# Altium footprint library fifo.PCBLIB: 7 footprints
Each footprint in its own frame and in the unit in brackets; x right, y up, seen from the top. Pads: shape width x height; smd on the part's side, far side on the other; paste and mask are expansions set on the pad; w line width, h text height; cw(c..) or ccw(c..) is an arc to the next point about the centre after c.
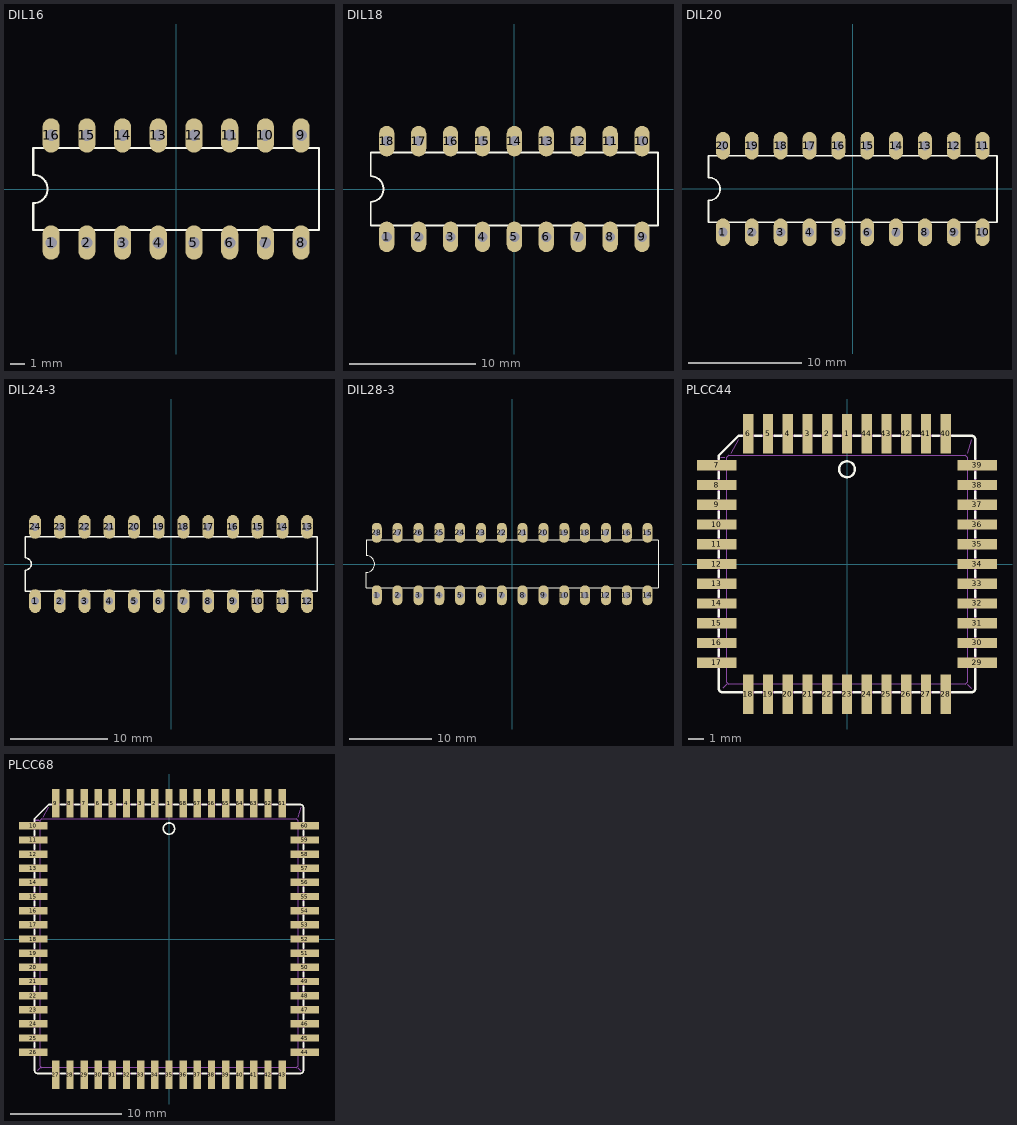
[diagram p0: the footprints below, top view; thin cyan lines are the x and y axes]

## DIL16 [mil]
pads (16):
  oval 48x96 hole 32: 1(-350,-150) 2(-250,-150) 3(-150,-150) 4(-50,-150) 5(50,-150) 6(150,-150) 7(250,-150) 8(350,-150) 9(350,150) 10(250,150) 11(150,150) 12(50,150) 13(-50,150) 14(-150,150) 15(-250,150) 16(-350,150)
Top Overlay:
  lines w6: -400,-115 400,-115 400,115 -400,115 -400,40 cw(c-400,0) -400,-40 -400,-115

## DIL18 [mil]
pads (18):
  oval 48x96 hole 32: 1(-400,-150) 2(-300,-150) 3(-200,-150) 4(-100,-150) 5(0,-150) 6(100,-150) 7(200,-150) 8(300,-150) 9(400,-150) 10(400,150) 11(300,150) 12(200,150) 13(100,150) 14(0,150) 15(-100,150) 16(-200,150) 17(-300,150) 18(-400,150)
Top Overlay:
  lines w6: -450,-115 450,-115 450,115 -450,115 -450,40 cw(c-450,0) -450,-40 -450,-115

## DIL20 [mil]
pads (20):
  oval 48x96 hole 32: 1(-450,-150) 2(-350,-150) 3(-250,-150) 4(-150,-150) 5(-50,-150) 6(50,-150) 7(150,-150) 8(250,-150) 9(350,-150) 10(450,-150) 11(450,150) 12(350,150) 13(250,150) 14(150,150) 15(50,150) 16(-50,150) 17(-150,150) 18(-250,150) 19(-350,150) 20(-450,150)
Top Overlay:
  lines w6: -500,-115 500,-115 500,115 -500,115 -500,40 cw(c-500,0) -500,-40 -500,-115

## DIL24-3 [mil]
pads (24):
  oval 48x96 hole 32: 1(-550,-150) 2(-450,-150) 3(-350,-150) 4(-250,-150) 5(-150,-150) 6(-50,-150) 7(50,-150) 8(150,-150) 9(250,-150) 10(350,-150) 11(450,-150) 12(550,-150) 13(550,150) 14(450,150) 15(350,150) 16(250,150) 17(150,150) 18(50,150) 19(-50,150) 20(-150,150) 21(-250,150) 22(-350,150) 23(-450,150) 24(-550,150)
Top Overlay:
  lines w6: -590,-110 -590,-25 ccw(c-590,0) -590,25 -590,110 590,110 590,-110 -590,-110

## DIL28-3 [mil]
pads (28):
  oval 48x96 hole 32: 1(-650,-150) 2(-550,-150) 3(-450,-150) 4(-350,-150) 5(-250,-150) 6(-150,-150) 7(-50,-150) 8(50,-150) 9(150,-150) 10(250,-150) 11(350,-150) 12(450,-150) 13(550,-150) 14(650,-150) 15(650,150) 16(550,150) 17(450,150) 18(350,150) 19(250,150) 20(150,150) 21(50,150) 22(-50,150) 23(-150,150) 24(-250,150) 25(-350,150) 26(-450,150) 27(-550,150) 28(-650,150)
Top Overlay:
  lines w6: -700,-115 700,-115 700,115 -700,115 -700,40 cw(c-700,0) -700,-40 -700,-115

## PLCC44 [mil]
pads (44):
  rect 26x100 smd: 1(0,330) 2(-50,330) 3(-100,330) 4(-150,330) 5(-200,330) 6(-250,330) 18(-250,-330) 19(-200,-330) 20(-150,-330) 21(-100,-330) 22(-50,-330) 23(0,-330) 24(50,-330) 25(100,-330) 26(150,-330) 27(200,-330) 28(250,-330) 40(250,330) 41(200,330) 42(150,330) 43(100,330) 44(50,330)
  rect 100x26 smd: 7(-330,250) 8(-330,200) 9(-330,150) 10(-330,100) 11(-330,50) 12(-330,0) 13(-330,-50) 14(-330,-100) 15(-330,-150) 16(-330,-200) 17(-330,-250) 29(330,-250) 30(330,-200) 31(330,-150) 32(330,-100) 33(330,-50) 34(330,0) 35(330,50) 36(330,100) 37(330,150) 38(330,200) 39(330,250)
Top Overlay:
  circle w6: c0,240 r20
  lines w6: -325,-267 -325,-315 ccw(c-315,-315) -315,-325 -267,-325 ; -325,-233 -325,-217 ; -325,-183 -325,-167 ; -325,-133 -325,-117 ; -325,-83 -325,-67 ; -325,-33 -325,-17 ; -325,17 -325,33 ; -325,67 -325,83 ; -325,117 -325,133 ; -325,167 -325,183 ; -325,217 -325,233 ; -325,267 -325,275 -275,325 -267,325 ; -233,-325 -217,-325 ; -233,325 -217,325 ; -183,-325 -167,-325 ; -183,325 -167,325 ; -133,-325 -117,-325 ; -133,325 -117,325 ; -83,-325 -67,-325 ; -83,325 -67,325 ; -33,-325 -17,-325 ; -33,325 -17,325 ; 17,-325 33,-325 ; 17,325 33,325 ; 67,-325 83,-325 ; 67,325 83,325 ; 117,-325 133,-325 ; 117,325 133,325 ; 167,-325 183,-325 ; 167,325 183,325 ; 217,-325 233,-325 ; 217,325 233,325 ; 267,-325 315,-325 ccw(c315,-315) 325,-315 325,-267 ; 267,325 315,325 cw(c315,315) 325,315 325,267 ; 325,-233 325,-217 ; 325,-183 325,-167 ; 325,-133 325,-117 ; 325,-83 325,-67 ; 325,-33 325,-17 ; 325,17 325,33 ; 325,67 325,83 ; 325,117 325,133 ; 325,167 325,183 ; 325,217 325,233
Mechanical 16:
  rectangle: 325,90 350,110
  rectangle: 325,140 350,160
  rectangle: 325,-260 350,-240
  rectangle: 325,-210 350,-190
  rectangle: 325,-60 350,-40
  rectangle: 325,-10 350,10
  rectangle: 325,40 350,60
  rectangle: 325,-160 350,-140
  rectangle: 325,-110 350,-90
  rectangle: 325,190 350,210
  rectangle: 325,240 350,260
  rectangle: -110,325 -90,350
  rectangle: -160,325 -140,350
  rectangle: 240,325 260,350
  rectangle: 190,325 210,350
  rectangle: 40,325 60,350
  rectangle: -10,325 10,350
  rectangle: -60,325 -40,350
  rectangle: 140,325 160,350
  rectangle: 90,325 110,350
  rectangle: -210,325 -190,350
  rectangle: -260,325 -240,350
  rectangle: -350,-110 -325,-90
  rectangle: -350,-160 -325,-140
  rectangle: -350,240 -325,260
  rectangle: -350,190 -325,210
  rectangle: -350,40 -325,60
  rectangle: -350,-10 -325,10
  rectangle: -350,-60 -325,-40
  rectangle: -350,140 -325,160
  rectangle: -350,90 -325,110
  rectangle: -350,-210 -325,-190
  rectangle: -350,-260 -325,-240
  rectangle: 90,-350 110,-325
  rectangle: 140,-350 160,-325
  rectangle: -260,-350 -240,-325
  rectangle: -210,-350 -190,-325
  rectangle: -60,-350 -40,-325
  rectangle: -10,-350 10,-325
  rectangle: 40,-350 60,-325
  rectangle: -160,-350 -140,-325
  rectangle: -110,-350 -90,-325
  rectangle: 190,-350 210,-325
  rectangle: 240,-350 260,-325
  lines w2: -320,270 -310,270 ; -315,-315 -305,-305 ; -295,280 -275,315 ; 305,-305 315,-315 ; 305,280 315,315 ; -305,-300 -300,-305 300,-305 305,-300 305,270 300,275 -300,275 -305,270 -305,-300
  lines w6: -325,-265 -325,-235 ; -325,-215 -325,-185 ; -325,-165 -325,-135 ; -325,-115 -325,-85 ; -325,-65 -325,-35 ; -325,-15 -325,15 ; -325,35 -325,65 ; -325,85 -325,115 ; -325,135 -325,165 ; -325,185 -325,215 ; -325,235 -325,265 ; -265,-325 -235,-325 ; -265,325 -235,325 ; -215,-325 -185,-325 ; -215,325 -185,325 ; -165,-325 -135,-325 ; -165,325 -135,325 ; -115,-325 -85,-325 ; -115,325 -85,325 ; -65,-325 -35,-325 ; -65,325 -35,325 ; -15,-325 15,-325 ; -15,325 15,325 ; 35,-325 65,-325 ; 35,325 65,325 ; 85,-325 115,-325 ; 85,325 115,325 ; 135,-325 165,-325 ; 135,325 165,325 ; 185,-325 215,-325 ; 185,325 215,325 ; 235,-325 265,-325 ; 235,325 265,325 ; 325,-265 325,-235 ; 325,-215 325,-185 ; 325,-165 325,-135 ; 325,-115 325,-85 ; 325,-65 325,-35 ; 325,-15 325,15 ; 325,35 325,65 ; 325,85 325,115 ; 325,135 325,165 ; 325,185 325,215 ; 325,235 325,265

## PLCC68 [mil]
pads (68):
  rect 26x100 smd: 1(0,480) 2(-50,480) 3(-100,480) 4(-150,480) 5(-200,480) 6(-250,480) 7(-300,480) 8(-350,480) 9(-400,480) 27(-400,-480) 28(-350,-480) 29(-300,-480) 30(-250,-480) 31(-200,-480) 32(-150,-480) 33(-100,-480) 34(-50,-480) 35(0,-480) 36(50,-480) 37(100,-480) 38(150,-480) 39(200,-480) 40(250,-480) 41(300,-480) 42(350,-480) 43(400,-480) 61(400,480) 62(350,480) 63(300,480) 64(250,480) 65(200,480) 66(150,480) 67(100,480) 68(50,480)
  rect 100x26 smd: 10(-480,400) 11(-480,350) 12(-480,300) 13(-480,250) 14(-480,200) 15(-480,150) 16(-480,100) 17(-480,50) 18(-480,0) 19(-480,-50) 20(-480,-100) 21(-480,-150) 22(-480,-200) 23(-480,-250) 24(-480,-300) 25(-480,-350) 26(-480,-400) 44(480,-400) 45(480,-350) 46(480,-300) 47(480,-250) 48(480,-200) 49(480,-150) 50(480,-100) 51(480,-50) 52(480,0) 53(480,50) 54(480,100) 55(480,150) 56(480,200) 57(480,250) 58(480,300) 59(480,350) 60(480,400)
Top Overlay:
  circle w6: c0,390 r20
  lines w6: -475,-417 -475,-465 ccw(c-465,-465) -465,-475 -417,-475 ; -475,-383 -475,-367 ; -475,-333 -475,-317 ; -475,-283 -475,-267 ; -475,-233 -475,-217 ; -475,-183 -475,-167 ; -475,-133 -475,-117 ; -475,-83 -475,-67 ; -475,-33 -475,-17 ; -475,17 -475,33 ; -475,67 -475,83 ; -475,117 -475,133 ; -475,167 -475,183 ; -475,217 -475,233 ; -475,267 -475,283 ; -475,317 -475,333 ; -475,367 -475,383 ; -475,417 -475,425 -425,475 -417,475 ; -383,-475 -367,-475 ; -383,475 -367,475 ; -333,-475 -317,-475 ; -333,475 -317,475 ; -283,-475 -267,-475 ; -283,475 -267,475 ; -233,-475 -217,-475 ; -233,475 -217,475 ; -183,-475 -167,-475 ; -183,475 -167,475 ; -133,-475 -117,-475 ; -133,475 -117,475 ; -83,-475 -67,-475 ; -83,475 -67,475 ; -33,-475 -17,-475 ; -33,475 -17,475 ; 17,-475 33,-475 ; 17,475 33,475 ; 67,-475 83,-475 ; 67,475 83,475 ; 117,-475 133,-475 ; 117,475 133,475 ; 167,-475 183,-475 ; 167,475 183,475 ; 217,-475 233,-475 ; 217,475 233,475 ; 267,-475 283,-475 ; 267,475 283,475 ; 317,-475 333,-475 ; 317,475 333,475 ; 367,-475 383,-475 ; 367,475 383,475 ; 417,-475 465,-475 ccw(c465,-465) 475,-465 475,-417 ; 417,475 465,475 cw(c465,465) 475,465 475,417 ; 475,-383 475,-367 ; 475,-333 475,-317 ; 475,-283 475,-267 ; 475,-233 475,-217 ; 475,-183 475,-167 ; 475,-133 475,-117 ; 475,-83 475,-67 ; 475,-33 475,-17 ; 475,17 475,33 ; 475,67 475,83 ; 475,117 475,133 ; 475,167 475,183 ; 475,217 475,233 ; 475,267 475,283 ; 475,317 475,333 ; 475,367 475,383
Mechanical 16:
  rectangle: 475,-60 500,-40
  rectangle: 475,-10 500,10
  rectangle: 475,-410 500,-390
  rectangle: 475,-360 500,-340
  rectangle: 475,-210 500,-190
  rectangle: 475,-160 500,-140
  rectangle: 475,-110 500,-90
  rectangle: 475,-310 500,-290
  rectangle: 475,-260 500,-240
  rectangle: 475,40 500,60
  rectangle: 475,90 500,110
  rectangle: 475,140 500,160
  rectangle: 475,190 500,210
  rectangle: 475,240 500,260
  rectangle: 475,290 500,310
  rectangle: 475,340 500,360
  rectangle: 475,390 500,410
  rectangle: -60,-500 -40,-475
  rectangle: -10,-500 10,-475
  rectangle: -410,-500 -390,-475
  rectangle: -360,-500 -340,-475
  rectangle: -210,-500 -190,-475
  rectangle: -160,-500 -140,-475
  rectangle: -110,-500 -90,-475
  rectangle: -310,-500 -290,-475
  rectangle: -260,-500 -240,-475
  rectangle: 40,-500 60,-475
  rectangle: 90,-500 110,-475
  rectangle: 140,-500 160,-475
  rectangle: 190,-500 210,-475
  rectangle: 240,-500 260,-475
  rectangle: 290,-500 310,-475
  rectangle: 340,-500 360,-475
  rectangle: 390,-500 410,-475
  rectangle: -500,40 -475,60
  rectangle: -500,-10 -475,10
  rectangle: -500,390 -475,410
  rectangle: -500,340 -475,360
  rectangle: -500,190 -475,210
  rectangle: -500,140 -475,160
  rectangle: -500,90 -475,110
  rectangle: -500,290 -475,310
  rectangle: -500,240 -475,260
  rectangle: -500,-60 -475,-40
  rectangle: -500,-110 -475,-90
  rectangle: -500,-160 -475,-140
  rectangle: -500,-210 -475,-190
  rectangle: -500,-260 -475,-240
  rectangle: -500,-310 -475,-290
  rectangle: -500,-360 -475,-340
  rectangle: -500,-410 -475,-390
  rectangle: 40,475 60,500
  rectangle: -10,475 10,500
  rectangle: 390,475 410,500
  rectangle: 340,475 360,500
  rectangle: 190,475 210,500
  rectangle: 140,475 160,500
  rectangle: 90,475 110,500
  rectangle: 290,475 310,500
  rectangle: 240,475 260,500
  rectangle: -60,475 -40,500
  rectangle: -110,475 -90,500
  rectangle: -160,475 -140,500
  rectangle: -210,475 -190,500
  rectangle: -260,475 -240,500
  rectangle: -310,475 -290,500
  rectangle: -360,475 -340,500
  rectangle: -410,475 -390,500
  lines w2: -465,-465 -455,-455 ; -445,430 -425,465 ; 455,-455 465,-465 ; 455,430 465,465 ; -455,-450 -450,-455 450,-455 455,-450 455,420 450,425 -450,425 -455,420 -455,-450
  lines w6: -475,-415 -475,-385 ; -475,-365 -475,-335 ; -475,-315 -475,-285 ; -475,-265 -475,-235 ; -475,-215 -475,-185 ; -475,-165 -475,-135 ; -475,-115 -475,-85 ; -475,-65 -475,-35 ; -475,-15 -475,15 ; -475,35 -475,65 ; -475,85 -475,115 ; -475,135 -475,165 ; -475,185 -475,215 ; -475,235 -475,265 ; -475,285 -475,315 ; -475,335 -475,365 ; -475,385 -475,415 ; -470,420 -460,420 ; -415,-475 -385,-475 ; -415,475 -385,475 ; -365,-475 -335,-475 ; -365,475 -335,475 ; -315,-475 -285,-475 ; -315,475 -285,475 ; -265,-475 -235,-475 ; -265,475 -235,475 ; -215,-475 -185,-475 ; -215,475 -185,475 ; -165,-475 -135,-475 ; -165,475 -135,475 ; -115,-475 -85,-475 ; -115,475 -85,475 ; -65,-475 -35,-475 ; -65,475 -35,475 ; -15,-475 15,-475 ; -15,475 15,475 ; 35,-475 65,-475 ; 35,475 65,475 ; 85,-475 115,-475 ; 85,475 115,475 ; 135,-475 165,-475 ; 135,475 165,475 ; 185,-475 215,-475 ; 185,475 215,475 ; 235,-475 265,-475 ; 235,475 265,475 ; 285,-475 315,-475 ; 285,475 315,475 ; 335,-475 365,-475 ; 335,475 365,475 ; 385,-475 415,-475 ; 385,475 415,475 ; 475,-415 475,-385 ; 475,-365 475,-335 ; 475,-315 475,-285 ; 475,-265 475,-235 ; 475,-215 475,-185 ; 475,-165 475,-135 ; 475,-115 475,-85 ; 475,-65 475,-35 ; 475,-15 475,15 ; 475,35 475,65 ; 475,85 475,115 ; 475,135 475,165 ; 475,185 475,215 ; 475,235 475,265 ; 475,285 475,315 ; 475,335 475,365 ; 475,385 475,415